# Altium integrated library Xilinx Virtex.IntLib: 240 symbols (part 34 of 34)
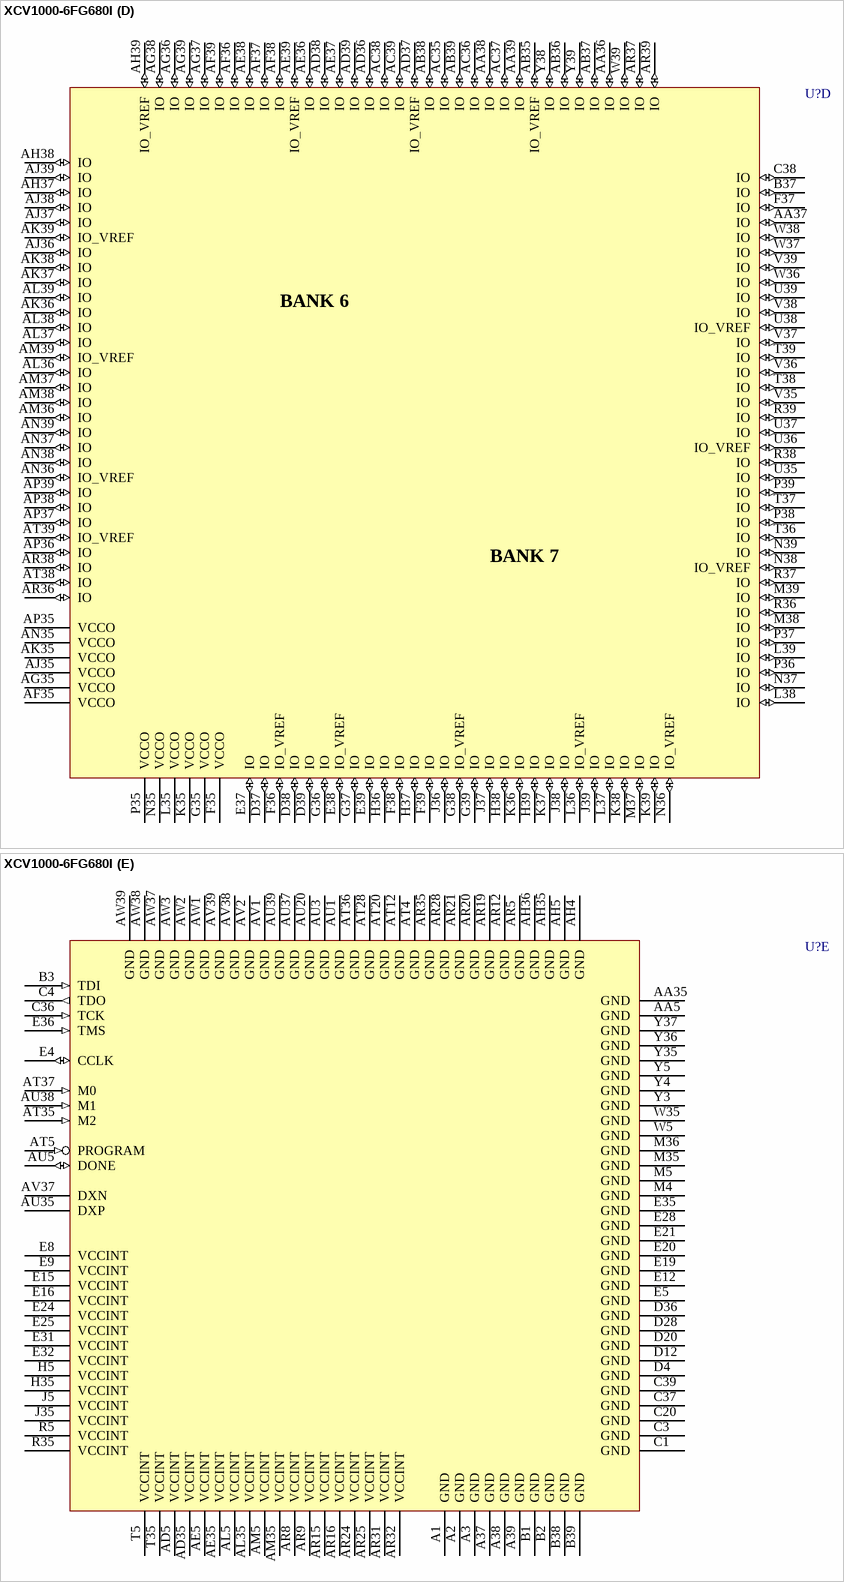
[diagram p413: symbol XCV1000-6FG680I]

## XCV1000-6FG680I
designator U?
Virtex 2.5V FPGA, 680-Ball FBGA, Industrial Grade; PackageDocument: ver1.1, Apr-2001; Note: Solder pads are defined by the copper, i.e. non-soldermask defined (NSMD); Published: 19-Sep-2001; LatestRevisionDate: 17-Jul-2002; LatestRevisionNote: Re-released for DXP Platform.; DatasheetDocument: Dec-2002; PackageReference: FG680; Publisher: Altium Limited
footprint FG680 (680-Ball Fine Pitch Ball Grid Array (FG680))
3D model XCV1000-FG680 (680-Ball Fine Pitch Ball Grid Array (FG680))
signal-integrity model XCV1000_FG680 (Virtex)
part A pins: A4 IO (io), A5 IO (io), A6 IO (io), A7 IO (io), A8 IO (io), A9 IO (io), A10 IO (io), A11 IO (io), A12 IO (io), A13 IO (io), A14 IO (io), A15 IO (io), A16 IO (io), A17 IO (io), A18 IO (io), A19 IO (io), A20 GCK3 (in), A21 IO (io), A22 IO (io), A23 IO (io), A24 IO (io), A25 IO (io), A26 IO_VREF (io), A27 IO (io), A28 IO (io), A29 IO (io), A30 IO (io), A31 IO (io), A32 IO (io), A33 IO_VREF (io), A34 IO (io), A35 IO (io), A36 IO (io), B4 IO_WRITE (io), B5 IO_VREF (io), B6 IO_VREF (io), B7 IO (io), B8 IO_VREF (io), B9 IO (io), B10 IO (io), B11 IO (io), B12 IO (io), B13 IO (io), B14 IO_VREF (io), B15 IO (io), B16 IO (io), B17 IO (io), B18 IO_VREF (io), B19 IO (io), B20 IO (io), B21 IO (io), B22 IO (io), B23 IO (io), B24 IO (io), B25 IO (io), B26 IO (io), B27 IO (io), B28 IO_VREF (io), B29 IO (io), B30 IO_VREF (io), B31 IO (io), B32 IO (io), B33 IO (io), B34 IO (io), B35 IO (io), B36 IO (io), C5 IO (io), C6 IO (io), C7 IO (io), C8 IO (io), C9 IO (io), C10 IO (io), C11 IO (io), C12 IO (io), C13 IO (io), C14 IO (io), C15 IO (io), C16 IO (io), C17 IO (io), C18 IO (io), C19 IO (io), C21 IO (io), C22 IO (io), C23 IO_VREF (io), C24 IO_VREF (io), C25 IO (io), C26 IO (io), C27 IO (io), C28 IO (io), C29 IO (io), C30 IO (io), C31 IO (io), C32 IO (io), C33 IO (io), C34 IO (io), C35 IO (io), D5 IO_CS (io), D6 IO (io), D7 IO (io), D8 IO (io), D9 IO (io), D10 IO (io), D11 IO_VREF (io), D13 IO_VREF (io), D14 IO (io), D15 IO (io), D16 IO (io), D17 IO_VREF (io), D18 IO (io), D19 IO (io), D21 GCK2 (in), D22 IO (io), D23 IO (io), D24 IO (io), D25 IO (io), D26 IO (io), D27 IO (io), D29 IO (io), D30 IO (io), D31 IO (io), D32 IO (io), D33 IO_VREF (io), D34 IO_VREF (io), D35 IO (io), E6 VCCO (power), E7 VCCO (power), E10 VCCO (power), E11 VCCO (power), E13 VCCO (power), E14 VCCO (power), E17 IO (io), E18 IO (io), E22 IO (io), E23 IO (io), E26 VCCO (power), E27 VCCO (power), E29 VCCO (power), E30 VCCO (power), E33 VCCO (power), E34 VCCO (power)
part B pins: AA1 IO (io), AA2 IO (io), AA3 IO (io), AA4 IO (io), AB1 IO (io), AB2 IO (io), AB3 IO (io), AB4 IO (io), AB5 IO (io), AC1 IO_VREF (io), AC2 IO (io), AC3 IO (io), AC4 IO (io), AC5 IO (io), AD1 IO (io), AD2 IO (io), AD3 IO_D4 (io), AD4 IO (io), AE1 IO (io), AE2 IO (io), AE3 IO (io), AE4 IO (io), AF1 IO (io), AF2 IO (io), AF3 IO_VREF (io), AF4 IO (io), AF5 VCCO (power), AG1 IO (io), AG2 IO_D5 (io), AG3 IO (io), AG4 IO (io), AG5 VCCO (power), AH1 IO_D6 (io), AH2 IO (io), AH3 IO (io), AJ1 IO (io), AJ2 IO_VREF (io), AJ3 IO (io), AJ4 IO (io), AJ5 VCCO (power), AK1 IO (io), AK2 IO (io), AK3 IO_VREF (io), AK4 IO (io), AK5 VCCO (power), AL1 IO (io), AL2 IO (io), AL3 IO (io), AL4 IO_VREF (io), AM1 IO (io), AM2 IO (io), AM3 IO (io), AM4 IO (io), AN1 IO (io), AN2 IO (io), AN3 IO (io), AN4 IO (io), AN5 VCCO (power), AP1 IO (io), AP2 IO (io), AP3 IO (io), AP4 IO_VREF (io), AP5 VCCO (power), AR1 IO_VREF (io), AR2 IO (io), AR3 IO (io), AR4 IO_D7 (io), AT1 IO (io), AT2 IO (io), AT3 IO (io), AU2 IO_INIT (io), C2 IO_DIN_D0 (io), D1 IO (io), D2 IO_VREF (io), D3 IO (io), E1 IO (io), E2 IO (io), E3 IO_DOUT_BUSY (io), F1 IO (io), F2 IO (io), F3 IO (io), F4 IO (io), F5 VCCO (power), G1 IO_VREF (io), G2 IO (io), G3 IO (io), G4 IO (io), G5 VCCO (power), H1 IO (io), H2 IO (io), H3 IO (io), H4 IO_VREF (io), J1 IO_VREF (io), J2 IO (io), J3 IO (io), J4 IO (io), K1 IO (io), K2 IO (io), K3 IO (io), K4 IO (io), K5 VCCO (power), L1 IO (io), L2 IO_VREF (io), L3 IO (io), L4 IO (io), L5 VCCO (power), M1 IO (io), M2 IO (io), M3 IO (io), N1 IO_VREF (io), N2 IO (io), N3 IO (io), N4 IO (io), N5 VCCO (power), P1 IO (io), P2 IO (io), P3 IO_D2 (io), P4 IO_D1 (io), P5 VCCO (power), R1 IO_D3 (io), R2 IO (io), R3 IO (io), R4 IO (io), T1 IO (io), T2 IO (io), T3 IO (io), T4 IO (io), U1 IO (io), U2 IO (io), U3 IO (io), U4 IO (io), U5 IO (io), V1 IO (io), V2 IO (io), V3 IO (io), V4 IO (io), V5 IO_VREF (io), W1 IO (io), W2 IO (io), W3 IO_VREF (io), W4 IO (io), Y1 IO_VREF (io), Y2 IO (io)
part C pins: AR6 VCCO (power), AR7 VCCO (power), AR10 VCCO (power), AR11 VCCO (power), AR13 VCCO (power), AR14 VCCO (power), AR17 IO (io), AR18 IO (io), AR22 IO (io), AR23 IO (io), AR26 VCCO (power), AR27 VCCO (power), AR29 VCCO (power), AR30 VCCO (power), AR33 VCCO (power), AR34 VCCO (power), AT6 IO (io), AT7 IO (io), AT8 IO (io), AT9 IO (io), AT10 IO (io), AT11 IO (io), AT13 IO (io), AT14 IO (io), AT15 IO (io), AT16 IO (io), AT17 IO (io), AT18 IO (io), AT19 IO_VREF (io), AT21 IO (io), AT22 IO (io), AT23 IO (io), AT24 IO (io), AT25 IO_VREF (io), AT26 IO (io), AT27 IO_VREF (io), AT29 IO (io), AT30 IO (io), AT31 IO (io), AT32 IO (io), AT33 IO (io), AT34 IO (io), AU4 IO (io), AU6 IO_VREF (io), AU7 IO_VREF (io), AU8 IO (io), AU9 IO (io), AU10 IO (io), AU11 IO (io), AU12 IO (io), AU13 IO (io), AU14 IO (io), AU15 IO (io), AU16 IO (io), AU17 IO_VREF (io), AU18 IO (io), AU19 IO (io), AU21 IO (io), AU22 GCK1 (in), AU23 IO (io), AU24 IO (io), AU25 IO (io), AU26 IO (io), AU27 IO (io), AU28 IO (io), AU29 IO_VREF (io), AU30 IO (io), AU31 IO_VREF (io), AU32 IO (io), AU33 IO (io), AU34 IO (io), AU36 IO (io), AV3 IO (io), AV4 IO (io), AV5 IO (io), AV6 IO (io), AV7 IO (io), AV8 IO_VREF (io), AV9 IO (io), AV10 IO_VREF (io), AV11 IO (io), AV12 IO (io), AV13 IO (io), AV14 IO_VREF (io), AV15 IO (io), AV16 IO (io), AV17 IO (io), AV18 IO (io), AV19 IO (io), AV20 IO (io), AV21 IO (io), AV22 IO (io), AV23 IO (io), AV24 IO (io), AV25 IO (io), AV26 IO (io), AV27 IO (io), AV28 IO (io), AV29 IO (io), AV30 IO (io), AV31 IO (io), AV32 IO (io), AV33 IO (io), AV34 IO (io), AV35 IO_VREF (io), AV36 IO_VREF (io), AW4 IO (io), AW5 IO (io), AW6 IO (io), AW7 IO (io), AW8 IO (io), AW9 IO (io), AW10 IO (io), AW11 IO_VREF (io), AW12 IO (io), AW13 IO (io), AW14 IO (io), AW15 IO (io), AW16 IO (io), AW17 IO (io), AW18 IO (io), AW19 GCK0 (in), AW20 IO (io), AW21 IO_VREF (io), AW22 IO (io), AW23 IO_VREF (io), AW24 IO (io), AW25 IO (io), AW26 IO (io), AW27 IO (io), AW28 IO (io), AW29 IO (io), AW30 IO (io), AW31 IO (io), AW32 IO (io), AW33 IO (io), AW34 IO (io), AW35 IO (io), AW36 IO (io)
part D pins: AA36 IO (io), AA37 IO (io), AA38 IO (io), AA39 IO (io), AB35 IO_VREF (io), AB36 IO (io), AB37 IO (io), AB38 IO (io), AB39 IO (io), AC35 IO (io), AC36 IO (io), AC37 IO (io), AC38 IO (io), AC39 IO (io), AD36 IO (io), AD37 IO_VREF (io), AD38 IO (io), AD39 IO (io), AE36 IO (io), AE37 IO (io), AE38 IO (io), AE39 IO_VREF (io), AF35 VCCO (power), AF36 IO (io), AF37 IO (io), AF38 IO (io), AF39 IO (io), AG35 VCCO (power), AG36 IO (io), AG37 IO (io), AG38 IO (io), AG39 IO (io), AH37 IO (io), AH38 IO (io), AH39 IO_VREF (io), AJ35 VCCO (power), AJ36 IO (io), AJ37 IO (io), AJ38 IO (io), AJ39 IO (io), AK35 VCCO (power), AK36 IO (io), AK37 IO (io), AK38 IO (io), AK39 IO_VREF (io), AL36 IO (io), AL37 IO (io), AL38 IO (io), AL39 IO (io), AM36 IO (io), AM37 IO (io), AM38 IO (io), AM39 IO_VREF (io), AN35 VCCO (power), AN36 IO_VREF (io), AN37 IO (io), AN38 IO (io), AN39 IO (io), AP35 VCCO (power), AP36 IO (io), AP37 IO (io), AP38 IO (io), AP39 IO (io), AR36 IO (io), AR37 IO (io), AR38 IO (io), AR39 IO (io), AT38 IO (io), AT39 IO_VREF (io), B37 IO (io), C38 IO (io), D37 IO (io), D38 IO (io), D39 IO (io), E37 IO (io), E38 IO_VREF (io), E39 IO (io), F35 VCCO (power), F36 IO_VREF (io), F37 IO (io), F38 IO (io), F39 IO (io), G35 VCCO (power), G36 IO (io), G37 IO (io), G38 IO_VREF (io), G39 IO (io), H36 IO (io), H37 IO (io), H38 IO (io), H39 IO (io), J36 IO (io), J37 IO (io), J38 IO (io), J39 IO (io), K35 VCCO (power), K36 IO (io), K37 IO (io), K38 IO (io), K39 IO (io), L35 VCCO (power), L36 IO_VREF (io), L37 IO (io), L38 IO (io), L39 IO (io), M37 IO (io), M38 IO (io), M39 IO (io), N35 VCCO (power), N36 IO_VREF (io), N37 IO (io), N38 IO_VREF (io), N39 IO (io), P35 VCCO (power), P36 IO (io), P37 IO (io), P38 IO (io), P39 IO (io), R36 IO (io), R37 IO (io), R38 IO (io), R39 IO (io), T36 IO (io), T37 IO (io), T38 IO (io), T39 IO (io), U35 IO (io), U36 IO_VREF (io), U37 IO (io), U38 IO_VREF (io), U39 IO (io), V35 IO (io), V36 IO (io), V37 IO (io), V38 IO (io), V39 IO (io), W36 IO (io), W37 IO (io), W38 IO (io), W39 IO (io), Y38 IO (io), Y39 IO (io)
part E pins: A1 GND (power), A2 GND (power), A3 GND (power), A37 GND (power), A38 GND (power), A39 GND (power), AA5 GND (power), AA35 GND (power), AD5 VCCINT (power), AD35 VCCINT (power), AE5 VCCINT (power), AE35 VCCINT (power), AH4 GND (power), AH5 GND (power), AH35 GND (power), AH36 GND (power), AL5 VCCINT (power), AL35 VCCINT (power), AM5 VCCINT (power), AM35 VCCINT (power), AR5 GND (power), AR8 VCCINT (power), AR9 VCCINT (power), AR12 GND (power), AR15 VCCINT (power), AR16 VCCINT (power), AR19 GND (power), AR20 GND (power), AR21 GND (power), AR24 VCCINT (power), AR25 VCCINT (power), AR28 GND (power), AR31 VCCINT (power), AR32 VCCINT (power), AR35 GND (power), AT4 GND (power), AT5 PROGRAM (in), AT12 GND (power), AT20 GND (power), AT28 GND (power), AT35 M2 (in), AT36 GND (power), AT37 M0 (in), AU1 GND (power), AU3 GND (power), AU5 DONE (io), AU20 GND (power), AU35 DXP, AU37 GND (power), AU38 M1 (in), AU39 GND (power), AV1 GND (power), AV2 GND (power), AV37 DXN, AV38 GND (power), AV39 GND (power), AW1 GND (power), AW2 GND (power), AW3 GND (power), AW37 GND (power), AW38 GND (power), AW39 GND (power), B1 GND (power), B2 GND (power), B3 TDI (in), B38 GND (power), B39 GND (power), C1 GND (power), C3 GND (power), C4 TDO (out), C20 GND (power), C36 TCK (in), C37 GND (power), C39 GND (power), D4 GND (power), D12 GND (power), D20 GND (power), D28 GND (power), D36 GND (power), E4 CCLK (io), E5 GND (power), E8 VCCINT (power), E9 VCCINT (power), E12 GND (power), E15 VCCINT (power), E16 VCCINT (power), E19 GND (power), E20 GND (power), E21 GND (power), E24 VCCINT (power), E25 VCCINT (power), E28 GND (power), E31 VCCINT (power), E32 VCCINT (power), E35 GND (power), E36 TMS (in), H5 VCCINT (power), H35 VCCINT (power), J5 VCCINT (power), J35 VCCINT (power), M4 GND (power), M5 GND (power), M35 GND (power), M36 GND (power), R5 VCCINT (power), R35 VCCINT (power), T5 VCCINT (power), T35 VCCINT (power), W5 GND (power), W35 GND (power), Y3 GND (power), Y4 GND (power), Y5 GND (power), Y35 GND (power), Y36 GND (power), Y37 GND (power)
part A text: BANK 0; BANK 1
part B text: BANK 2; BANK 3
part C text: BANK 4; BANK 5
part D text: BANK 6; BANK 7